# EAGLE library part 1-84952-2 (library RoboJackets-Connectors)
Description: 12 Position FPC Connector Contacts, Bottom 0.039" (1.00mm) Surface Mount, Right Angle Link: Digi-Key <https://www.digikey.com/product-detail/en/te-connectivity-amp-connectors/1-84952-2/A100251CT-ND/2180592>
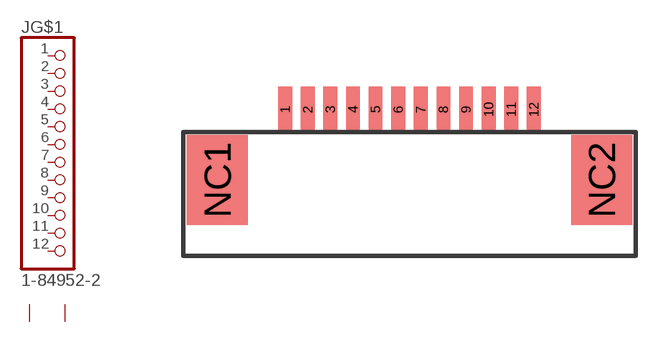
[diagram p4: symbol with the pads of 1-84952-2; footprint 1-84952-2]

Designator prefix J; gates G$2=LEGS G$1=PINHD12

## 1-84952-2 (DKPN: A100251CT-ND)  [1-84952-2]
1  G$1:1  pas
2  G$1:2  pas
3  G$1:3  pas
4  G$1:4  pas
5  G$1:5  pas
6  G$1:6  pas
7  G$1:7  pas
8  G$1:8  pas
9  G$1:9  pas
10  G$1:10  pas
11  G$1:11  pas
12  G$1:12  pas
NC1  G$2:LEG1  pas
NC2  G$2:LEG2  pas

## Footprint 1-84952-2 (pad centres in mm)
smd 0.61 x 2: 1 -5,3; 2 -4,3; 3 -3,3; 4 -2,3; 5 -1,3; 6 0,3; 7 1,3; 8 2,3; 9 3,3; 10 4,3; 11 5,3; 12 6,3
smd 2.7 x 4: NC1 -8,-0.127; NC2 9,-0.127